# Altium footprint library WE-WIRL.PcbLib: 25 footprints (part 1 of 2)
Each footprint in its own frame and in the unit in brackets; x right, y up, seen from the top. Pads: shape width x height; smd on the part's side, far side on the other; paste and mask are expansions set on the pad; w line width, h text height; cw(c..) or ccw(c..) is an arc to the next point about the centre after c.
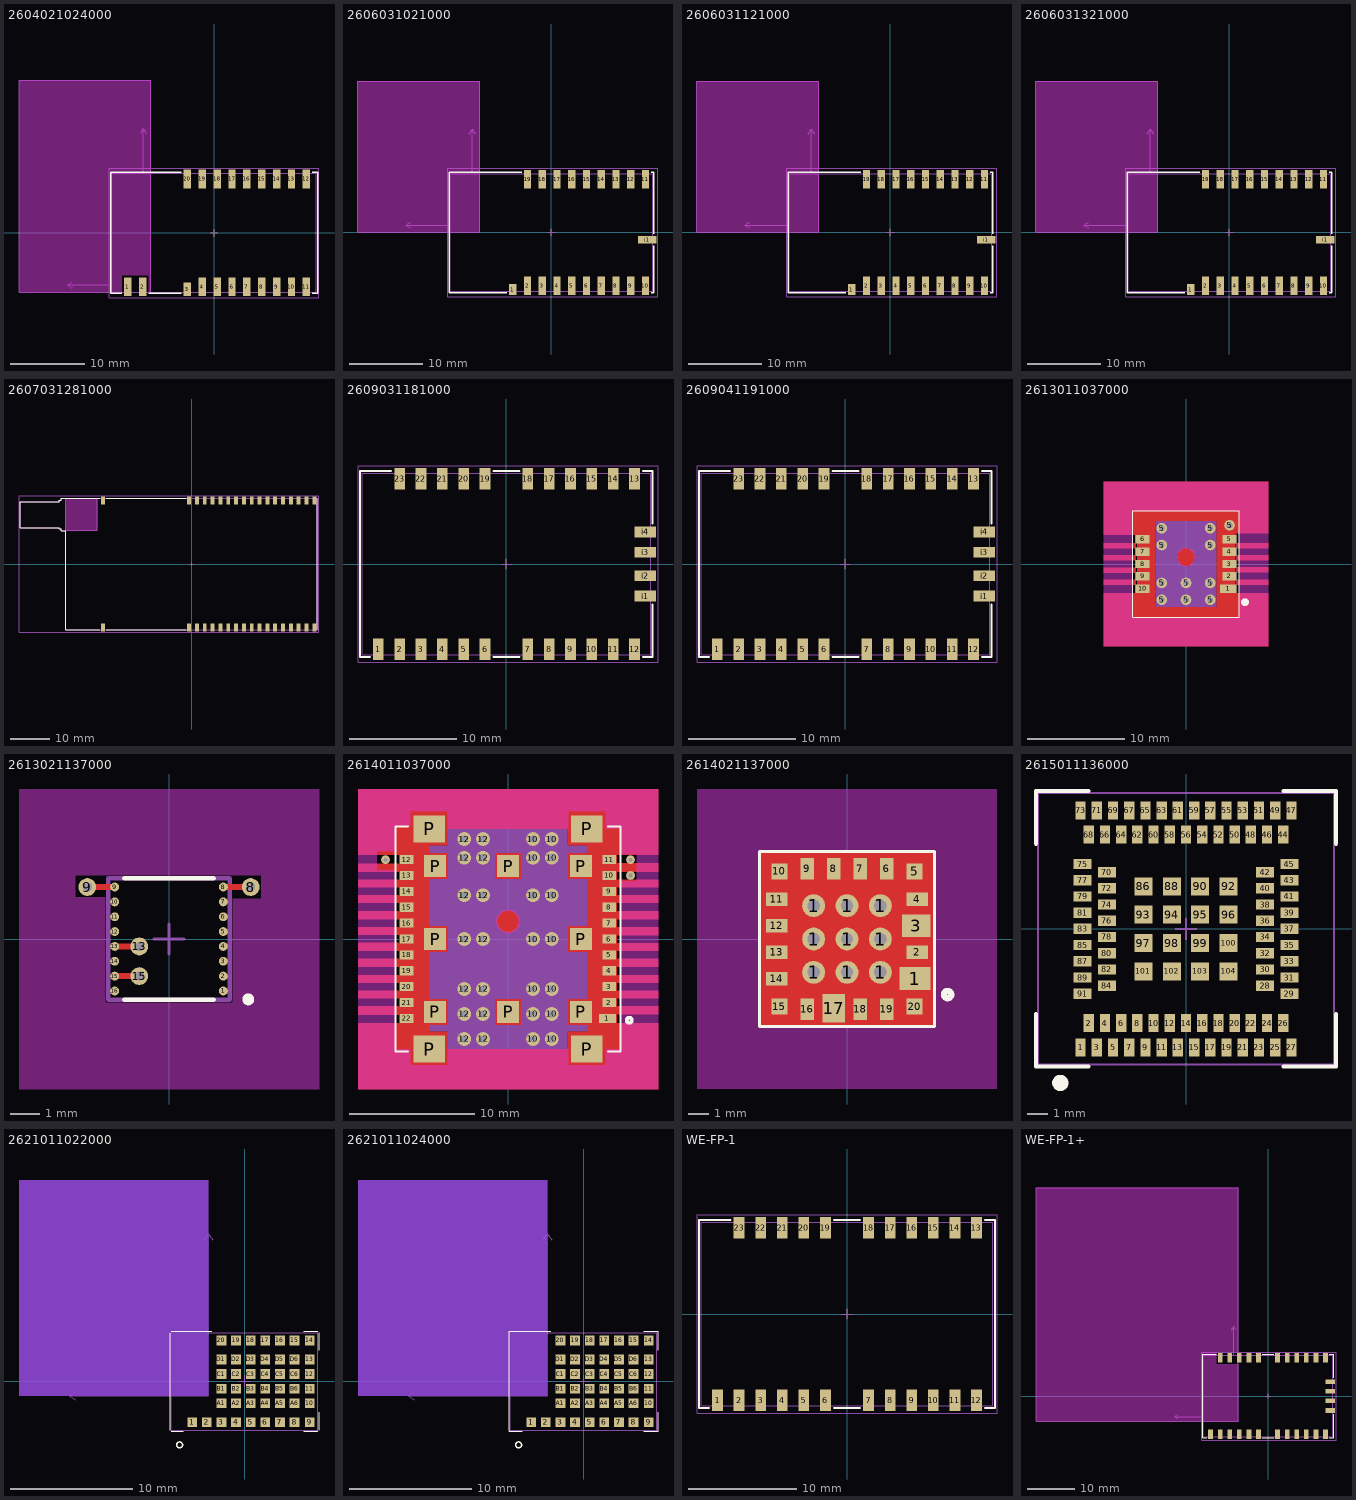
[diagram p0: the footprints below, top view; thin cyan lines are the x and y axes]

## 2604021024000 [mm] "Bluetooth radio module"
height 3.4
pads (20):
  rect 1x2.5 smd: 1(-11.6,-7.25) 2(-9.6,-7.25) 4(-1.6,-7.25) 5(0.4,-7.25) 6(2.4,-7.25) 7(4.4,-7.25) 8(6.4,-7.25) 9(8.4,-7.25) 10(10.4,-7.25) 11(12.4,-7.25) 12(12.4,7.25) 13(10.4,7.25) 14(8.4,7.25) 15(6.4,7.25) 16(4.4,7.25) 17(2.4,7.25) 18(0.4,7.25) 19(-1.6,7.25) 20(-3.6,7.25)
  rect 1x1.8 smd: 3(-3.6,-7.6)
Top Overlay:
  lines w0.2: -12.4,-8.15 -13.9,-8.15 -13.9,8.15 -4.4,8.15 ; -8.8,-8.15 -4.4,-8.15 ; 13.2,-8.15 13.9,-8.15 13.9,8.15 13.2,8.15
Keep-Out Layer:
  region: -26.25,20.5 -8.52,20.5 -8.52,-8 -8.8,-8 -8.8,-5.7 -12.4,-5.7 -12.4,-8 -26.25,-8
Assembly Notes:
  lines w0.1: -19.15,-7.375 -19.75,-7 ; -19.15,-6.625 -19.75,-7 ; -13.75,-7 -19.75,-7 ; -9.895,13.4 -9.52,14 ; -9.52,8 -9.52,14 ; -9.145,13.4 -9.52,14 ; -26.25,-8 -26.25,20.5 -8.52,20.5 -8.52,-8 -26.25,-8
  text "12.5mm" at -11.05,13.1 h0.89
  text "12.5mm" at -18.95,-6.5 h0.89
  text "no metal" at -25.45,-7.3 h0.89
  text "no metal" at -9.95,19.7 h0.89
Top Designator:
  text ".Designator" at -3.647,-0.357 h1
Top 3D Body:
  lines w0.1: -13.75,-8 13.75,-8 13.75,8 -13.75,8 -13.75,-8
Top Courtyard:
  lines w0.05: -14.1,-8.7 14.1,-8.7 14.1,8.7 -14.1,8.7 -14.1,-8.7
Top Component Center:
  lines w0.1: -0.5,0 0.5,0 ; 0,-0.5 0,0.5
3D body "2604021024001.stp": height 3.3, standoff 0, extent -13.75,-8 13.75,8

## 2606031021000 [mm] "Radio module 2.4GHz with chip antenna"
height 3.4
pads (20):
  rect 1x1.5 smd: 1(-5.25,-7.75)
  rect 1x2.5 smd: 2(-3.25,-7.25) 3(-1.25,-7.25) 4(0.75,-7.25) 5(2.75,-7.25) 6(4.75,-7.25) 7(6.75,-7.25) 8(8.75,-7.25) 9(10.75,-7.25) 10(12.75,-7.25) 11(12.75,7.25) 12(10.75,7.25) 13(8.75,7.25) 14(6.75,7.25) 15(4.75,7.25) 16(2.75,7.25) 17(0.75,7.25) 18(-1.25,7.25) 19(-3.25,7.25)
  rect 2.5x1 smd: i1(13,-1)
Top Overlay:
  lines w0.2: -6.05,-8.15 -13.9,-8.15 -13.9,8.15 -4.05,8.15 ; 13.55,-8.15 13.9,-8.15 13.9,-1.8 ; 13.55,8.15 13.9,8.15 13.9,-0.2
Keep-Out Layer:
  region: -26.25,0 -26.25,20.5 -9.75,20.5 -9.75,0
Assembly Notes:
  lines w0.1: -19.15,0.625 -19.75,1 ; -19.15,1.375 -19.75,1 ; -13.75,1 -19.75,1 ; -11.125,13.4 -10.75,14 ; -10.75,8 -10.75,14 ; -10.375,13.4 -10.75,14 ; -26.25,0 -26.25,20.5 -9.75,20.5 -9.75,0 -26.25,0
  text "no metal" at -11.18,19.7 h0.89
  text "12.5mm" at -12.28,13.1 h0.89
  text "12.5mm" at -18.95,1.5 h0.89
  text "no metal" at -25.45,0.7 h0.89
Top Designator:
  text ".Designator" at -3.647,-0.357 h1
Top 3D Body:
  lines w0.1: -13.75,-8 -13.75,8 13.75,8 13.75,-8 -13.75,-8
Top Courtyard:
  lines w0.05: -14.1,-8.7 14.45,-8.7 14.45,8.7 -14.1,8.7 -14.1,-8.7
Top Component Center:
  lines w0.1: -0.5,0 0.5,0 ; 0,-0.5 0,0.5
3D body "2606031021000.stp": height 3, standoff 0, extent -13.75,-8 13.75,8

## 2606031121000 [mm] "Radio module 2.4 GHz with RF pad"
height 3.4
pads (20):
  rect 1x1.5 smd: 1(-5.25,-7.75)
  rect 1x2.5 smd: 2(-3.25,-7.25) 3(-1.25,-7.25) 4(0.75,-7.25) 5(2.75,-7.25) 6(4.75,-7.25) 7(6.75,-7.25) 8(8.75,-7.25) 9(10.75,-7.25) 10(12.75,-7.25) 11(12.75,7.25) 12(10.75,7.25) 13(8.75,7.25) 14(6.75,7.25) 15(4.75,7.25) 16(2.75,7.25) 17(0.75,7.25) 18(-1.25,7.25) 19(-3.25,7.25)
  rect 2.5x1 smd: i1(13,-1)
Top Overlay:
  lines w0.2: -6.05,-8.15 -13.9,-8.15 -13.9,8.15 -4.05,8.15 ; 13.55,-8.15 13.9,-8.15 13.9,-1.8 ; 13.55,8.15 13.9,8.15 13.9,-0.2
Keep-Out Layer:
  region: -26.25,0 -26.25,20.5 -9.75,20.5 -9.75,0
Assembly Notes:
  lines w0.1: -19.15,0.625 -19.75,1 ; -19.15,1.375 -19.75,1 ; -13.75,1 -19.75,1 ; -11.125,13.4 -10.75,14 ; -10.75,8 -10.75,14 ; -10.375,13.4 -10.75,14 ; -26.25,0 -26.25,20.5 -9.75,20.5 -9.75,0 -26.25,0
  text "no metal" at -11.18,19.7 h0.89
  text "12.5mm" at -12.28,13.1 h0.89
  text "12.5mm" at -18.95,1.5 h0.89
  text "no metal" at -25.45,0.7 h0.89
Top Designator:
  text ".Designator" at -3.647,-0.357 h1
Top 3D Body:
  lines w0.1: -13.75,-8 13.75,-8 13.75,8 -13.75,8 -13.75,-8
Top Courtyard:
  lines w0.05: -14.1,-8.7 -14.1,8.7 14.45,8.7 14.45,-8.7 -14.1,-8.7
Top Component Center:
  lines w0.1: -0.5,0 0.5,0 ; 0,-0.5 0,0.5
3D body "2606031121001.stp": height 3, standoff 0, extent -13.75,-8 13.75,8

## 2606031321000 [mm] "Radio module 2.4 GHz with VFL connector"
height 3.4
pads (20):
  rect 1x1.5 smd: 1(-5.25,-7.75)
  rect 1x2.5 smd: 2(-3.25,-7.25) 3(-1.25,-7.25) 4(0.75,-7.25) 5(2.75,-7.25) 6(4.75,-7.25) 7(6.75,-7.25) 8(8.75,-7.25) 9(10.75,-7.25) 10(12.75,-7.25) 11(12.75,7.25) 12(10.75,7.25) 13(8.75,7.25) 14(6.75,7.25) 15(4.75,7.25) 16(2.75,7.25) 17(0.75,7.25) 18(-1.25,7.25) 19(-3.25,7.25)
  rect 2.5x1 smd: i1(13,-1)
Top Overlay:
  lines w0.2: -6.05,-8.15 -13.9,-8.15 -13.9,8.15 -4.05,8.15 ; 13.55,-8.15 13.9,-8.15 13.9,-1.8 ; 13.55,8.15 13.9,8.15 13.9,-0.2
Keep-Out Layer:
  region: -26.25,0 -26.25,20.5 -9.75,20.5 -9.75,0
Assembly Notes:
  lines w0.1: -19.15,0.625 -19.75,1 ; -19.15,1.375 -19.75,1 ; -13.75,1 -19.75,1 ; -11.125,13.4 -10.75,14 ; -10.75,8 -10.75,14 ; -10.375,13.4 -10.75,14 ; -26.25,0 -26.25,20.5 -9.75,20.5 -9.75,0 -26.25,0
  text "no metal" at -11.18,19.7 h0.89
  text "12.5mm" at -12.28,13.1 h0.89
  text "12.5mm" at -18.95,1.5 h0.89
  text "no metal" at -25.45,0.7 h0.89
Top Designator:
  text ".Designator" at -3.647,-0.357 h1
Top 3D Body:
  lines w0.1: -13.75,-8 -13.75,8 13.75,8 13.75,-8 -13.75,-8
Top Courtyard:
  lines w0.05: -14.1,-8.7 14.45,-8.7 14.45,8.7 -14.1,8.7 -14.1,-8.7
Top Component Center:
  lines w0.1: -0.5,0 0.5,0 ; 0,-0.5 0,0.5
3D body "2606031321001.stp": height 3, standoff 0, extent -13.75,-8 13.75,8

## 2607031281000 [mm] "Radio module 868MHz"
height 14.65
pads (36):
  rect 1x2 smd: 1(-22.625,-16.25) 2(-0.625,-16.25) 3(1.375,-16.25) 4(3.375,-16.25) 5(5.375,-16.25) 6(7.375,-16.25) 7(9.375,-16.25) 8(11.375,-16.25) 9(13.375,-16.25) 10(15.375,-16.25) 11(17.375,-16.25) 12(19.375,-16.25) 13(21.375,-16.25) 14(23.375,-16.25) 15(25.375,-16.25) 16(27.375,-16.25) 17(29.375,-16.25) 18(31.375,-16.25) 19(31.375,16.25) 20(29.375,16.25) 21(27.375,16.25) 22(25.375,16.25) 23(23.375,16.25) 24(21.375,16.25) 25(19.375,16.25) 26(17.375,16.25) 27(15.375,16.25) 28(13.375,16.25) 29(11.375,16.25) 30(9.375,16.25) 31(7.375,16.25) 32(5.375,16.25) 33(3.375,16.25) 34(1.375,16.25) 35(-0.625,16.25) 36(-22.625,16.25)
Top Overlay:
  lines w0.2: -23.425,-16.75 -32.175,-16.75 -32.175,8.45 -33.325,8.45 -33.325,8.95 -33.825,8.95 -33.825,9.3 -43.825,9.3 -43.825,15.9 -33.825,15.9 -33.825,16.25 -33.325,16.25 -33.325,16.75 -32.175,16.75 -23.425,16.75 ; -21.825,-16.75 -1.425,-16.75 ; -21.825,16.75 -1.425,16.75 ; 32.175,-16.75 32.175,16.75
Keep-Out Layer:
  board cut-out: -32.175,8.65 -24.075,8.65 -24.075,16.75 -32.175,16.75
Assembly Notes:
  lines w0.1: -32.175,8.65 -24.075,8.65 -24.075,16.75 -32.175,16.75 -32.175,8.65
  text "Cut out area" at -32.675,7.15 h1.02
Top Designator:
  text ".Designator" at -3.647,-0.357 h1
Top 3D Body:
  lines w0.1: -43.825,9.3 -33.825,9.3 -33.825,8.95 -33.325,8.95 -33.325,8.45 -32.175,8.45 -32.175,-16.75 32.175,-16.75 32.175,16.75 -32.175,16.75 -33.325,16.75 -33.325,16.25 -33.825,16.25 -33.825,15.9 -43.825,15.9 -43.825,9.3
Top Courtyard:
  lines w0.05: -44.125,-17.45 32.575,-17.45 32.575,17.45 -44.125,17.45 -44.125,-17.45
Top Component Center:
  lines w0.1: -0.5,0 0.5,0 ; 0,-0.5 0,0.5
3D body "2607031281001.stp": height 12, standoff -2.65, extent -43.925,-16.775 32.175,16.775
3D body "2607031281001.stp": height 12, standoff -2.65, extent -43.925,-16.775 32.175,16.775

## 2609031181000 [mm] "Compatible to Footprint WE-FP-1+"
height 4
pads (27):
  rect 1x2 smd: 1(-12,-8) 2(-10,-8) 3(-8,-8) 4(-6,-8) 5(-4,-8) 6(-2,-8) 7(2,-8) 8(4,-8) 9(6,-8) 10(8,-8) 11(10,-8) 12(12,-8) 13(12,8) 14(10,8) 15(8,8) 16(6,8) 17(4,8) 18(2,8) 19(-2,8) 20(-4,8) 21(-6,8) 22(-8,8) 23(-10,8)
  rect 2x1 smd: i1(13,-3) i2(13,-1.1) i3(13,1.1) i4(13,3)
Top Overlay:
  lines w0.2: -12.8,-8.7 -13.7,-8.7 -13.7,8.7 -10.8,8.7 ; -1.2,-8.7 1.2,-8.7 ; -1.2,8.7 1.2,8.7 ; 12.8,-8.7 13.7,-8.7 13.7,-3.8 ; 12.8,8.7 13.7,8.7 13.7,3.8
Top Designator:
  text ".Designator" at -3.647,-0.357 h1
Top 3D Body:
  lines w0.1: -13.5,-8.5 13.5,-8.5 13.5,8.5 -13.5,8.5 -13.5,-8.5
Top Courtyard:
  lines w0.05: -13.9,-9.2 -13.9,9.2 14.2,9.2 14.2,-9.2 -13.9,-9.2
Top Component Center:
  lines w0.1: -0.5,0 0.5,0 ; 0,-0.5 0,0.5
3D body "2609031181001.stp": height 3.84, standoff 0, extent -13.5,-8.5 13.5,8.5

## 2609041191000 [mm] "Compatible to Footprint WE-FP-1+"
height 4
pads (27):
  rect 1x2 smd: 1(-12,-8) 2(-10,-8) 3(-8,-8) 4(-6,-8) 5(-4,-8) 6(-2,-8) 7(2,-8) 8(4,-8) 9(6,-8) 10(8,-8) 11(10,-8) 12(12,-8) 13(12,8) 14(10,8) 15(8,8) 16(6,8) 17(4,8) 18(2,8) 19(-2,8) 20(-4,8) 21(-6,8) 22(-8,8) 23(-10,8)
  rect 2x1 smd: i1(13,-3) i2(13,-1.1) i3(13,1.1) i4(13,3)
Top Overlay:
  lines w0.2: -12.8,-8.7 -13.7,-8.7 -13.7,8.7 -10.8,8.7 ; -1.2,-8.7 1.2,-8.7 ; -1.2,8.7 1.2,8.7 ; 12.8,-8.7 13.7,-8.7 13.7,-3.8 ; 12.8,8.7 13.7,8.7 13.7,3.8
Top Designator:
  text ".Designator" at -3.647,-0.357 h1
Top 3D Body:
  lines w0.1: -13.5,-8.5 -13.5,8.5 13.5,8.5 13.5,-8.5 -13.5,-8.5
Top Courtyard:
  lines w0.05: -13.9,-9.2 14.2,-9.2 14.2,9.2 -13.9,9.2 -13.9,-9.2
Top Component Center:
  lines w0.1: -0.5,0 0.5,0 ; 0,-0.5 0,0.5
3D body "2609031181001.stp": height 3.84, standoff 0, extent -13.5,-8.5 13.5,8.5

## 2613011037000 [mm] "Elara-I GNSS Module - GPS and GLONASS."
height 5.9
pads (21):
  rect 1.676x0.864 smd mask+0.05: 1(4.362,-2.54)
  rect 1.422x0.864 smd mask+0.05: 2(4.489,-1.27) 3(4.489,0) 4(4.489,1.27) 5(4.489,2.54) 6(-4.489,2.54) 7(-4.489,1.27) 8(-4.489,0) 9(-4.489,-1.27) 10(-4.489,-2.54)
  round 1.1 hole 0.6 mask+0: 5(-2.5,-3.7) 5(-2.5,-1.96) 5(-2.5,1.96) 5(-2.5,3.7) 5(0,-3.7) 5(0,-1.96) 5(2.5,-3.7) 5(2.5,-1.96) 5(2.5,1.96) 5(2.5,3.7)
  round 1.1 hole 0.6 mask+0.05: 5(4.5,4)
Top Layer:
  pour cut-out: 0.002,1.584 -0.085,1.585 -0.256,1.552 -0.417,1.487 -0.562,1.391 -0.686,1.27 -0.783,1.126 -0.851,0.966 -0.886,0.796 -0.887,0.709 -0.888,0.621 -0.854,0.448 -0.788,0.285 -0.691,0.138 -0.567,0.012 -0.421,-0.087 -0.259,-0.155 -0.086,-0.19 0.002,-0.191 0.09,-0.19 0.263,-0.155 0.425,-0.087 0.571,0.012 0.695,0.138 0.792,0.285 0.858,0.448 0.892,0.621 0.891,0.709 0.89,0.796 0.855,0.966 0.787,1.126 0.69,1.27 0.566,1.391 0.421,1.487 0.26,1.552 0.089,1.585
  pour cut-out: -8.5,-8.5 -8.5,-3 -3.175,-3 -3.175,-8.5
  pour cut-out: -8.5,8.5 8.5,8.5 8.5,4.445 -8.5,4.445
  pour cut-out: -8.5,-4.445 8.5,-4.445 8.5,-8.5 -8.5,-8.5
  pour cut-out: 3.175,-8.5 3.175,8.5 5.05,8.5 5.05,-8.5
  pour cut-out: -8.5,3 -8.5,8.5 -3.175,8.5 -3.175,3
  pour cut-out: -8.513,-2.15 -8.513,-1.65 -5.25,-1.65 -5.25,-2.15
  pour cut-out: -8.513,-0.9 -8.513,-0.4 -5.25,-0.4 -5.25,-0.9
  pour cut-out: -8.513,0.4 -8.513,0.9 -5.25,0.9 -5.25,0.4
  pour cut-out: -8.513,1.65 -8.513,2.15 -5.25,2.15 -5.25,1.65
  pour cut-out: 8.513,2.15 8.513,1.65 5.25,1.65 5.25,2.15
  pour cut-out: 8.513,0.9 8.513,0.4 5.25,0.4 5.25,0.9
  pour cut-out: 8.513,-0.35 8.513,-0.85 5.25,-0.85 5.25,-0.35
  pour cut-out: 8.513,-1.65 8.513,-2.15 5.25,-2.15 5.25,-1.65
  pour cut-out: 3.184,-8.5 3.184,-3 8.509,-3 8.509,-8.5
  pour cut-out: 8.509,3.175 3.175,3.175 3.175,8.5 8.509,8.5
  pour cut-out: -3.175,8.5 -3.175,-8.5 -5.05,-8.5 -5.05,8.5
  lines w0: 0.891,0.69 cw(c0,0.69) 0.891,0.709
  lines w0.5: 4.5,2.5 4.5,4
Top Layer keep-out:
  circle w0.127: c0,0.69 r0.889
Top Overlay:
  circle w0.4: c6.1,-3.94 r0.2
  lines w0.127: -5.5,-5.5 5.5,-5.5 5.5,5.5 -5.5,5.5 -5.5,-5.5
Keep-Out Layer:
  region: 8.5,-8.5 8.5,-5.5 -8.5,-5.5 -8.5,-8.5
  region: -8.5,8.5 -8.5,5.5 8.5,5.5 8.5,8.5
  region: 8.5,8.5 5.5,8.5 5.5,-8.5 8.5,-8.5
  rectangle: -8.5,-8.5 -5.5,8.5
Assembly Notes:
  rectangle: -3.175,-4.445 3.175,4.445
  text "Area below the module except for center antipad  / should be filled with ground" at -8.61,-10.865 h0.4
Top Designator:
  text ".Designator" at -3.647,-0.357 h1
Top 3D Body:
  lines w0.1: -5.2,-5 -5.2,5 5.2,5 5.2,-5 -5.2,-5
Top Component Center:
  lines w0.1: -0.5,0 0.5,0 ; 0,-0.5 0,0.5
3D body "2613011037000.stp": height 6.7, standoff 0, extent -5,-5 5,5

## 2613021137000 [mm] "Elara-II GNSS Module - GPS and GLONASS."
height 2.2
pads (20):
  rrect100% 0.3x0.3 smd mask+0.05: 1(1.83,-1.75) 2(1.83,-1.25) 3(1.83,-0.75) 4(1.83,-0.25) 5(1.83,0.25) 6(1.83,0.75) 7(1.83,1.25) 8(1.83,1.75) 9(-1.83,1.75) 10(-1.83,1.25) 11(-1.83,0.75) 12(-1.83,0.25) 13(-1.83,-0.25) 14(-1.83,-0.75) 15(-1.83,-1.25) 16(-1.83,-1.75)
  round 0.6 / inner round 1.1 / far side round 1.1 hole 0.3 mask+0: 8(2.75,1.75) 9(-2.75,1.75) 13(-1,-0.25) 15(-1,-1.25)
Top Layer:
  lines w0.2: -2.75,1.75 -1.83,1.75 ; -1.83,-1.25 -1,-1.25 ; -1.83,-0.25 -1,-0.25 ; 1.83,1.75 2.75,1.75
Top Overlay:
  circle w0.2: c2.667,-2.032 r0.1
  lines w0.15: -1.5,-2.05 1.5,-2.05 ; -1.5,2.05 1.5,2.05
Keep-Out Layer:
  region: 2.15,2.15 3.1,2.15 3.1,1.35 2.15,1.35 2.15,-5.05 5.05,-5.05 5.05,5.05 2.15,5.05
  region: -5.05,5.05 -2.15,5.05 -2.2,5 -2.2,2.15 -3.15,2.15 -3.15,1.4 -2.15,1.4 -2.15,-5.05 -5.05,-5.05
  region: 5,5.05 5,2.15 -5.05,2.15 -5.05,5.05
  region: -5.05,-5.05 -5.05,-2.15 5.05,-2.15 5.05,-5.05
Top Designator:
  text ".Designator" at -3.647,-0.357 h1
Top 3D Body:
  lines w0.15: -2.05,-2.05 2.05,-2.05 2.05,2.05 -2.05,2.05 -2.05,-2.05
Top Component Center:
  lines w0.1: -0.5,0 0.5,0 ; 0,-0.5 0,0.5
3D body "2613021137000.stp": height 1.5, standoff -0.7, extent -2.05,-2.05 2.05,2.05

## 2614011037000 [mm] "Erinome-I GNSS Module - BeiDou, Galileo, GPS, GLONASS."
height 6.4
pads (65):
  rect 1.37x0.737 smd mask+0.05: 1(7.95,-6.35)
  rect 1.07x0.737 smd mask+0.05: 2(8.1,-5.08) 3(8.1,-3.81) 4(8.1,-2.54) 5(8.1,-1.27) 6(8.1,0) 7(8.1,1.27) 8(8.1,2.54) 9(8.1,3.81) 10(8.1,5.08) 11(8.1,6.35) 12(-8.1,6.35) 13(-8.1,5.08) 14(-8.1,3.81) 15(-8.1,2.54) 16(-8.1,1.27) 17(-8.1,0) 18(-8.1,-1.27) 19(-8.1,-2.54) 20(-8.1,-3.81) 21(-8.1,-5.08) 22(-8.1,-6.35)
  round 1.1 hole 0.6 mask+0: 10(2,-8) 10(2,-6) 10(2,-4) 10(2,0) 10(2,3.5) 10(2,6.5) 10(2,8) 10(3.5,-8) 10(3.5,-6) 10(3.5,-4) 10(3.5,0) 10(3.5,3.5) 10(3.5,6.5) 10(3.5,8) 12(-3.5,-8) 12(-3.5,-6) 12(-3.5,-4) 12(-3.5,0) 12(-3.5,3.5) 12(-3.5,6.5) 12(-3.5,8) 12(-2,-8) 12(-2,-6) 12(-2,-4) 12(-2,0) 12(-2,3.5) 12(-2,6.5) 12(-2,8)
  round 0.7 hole 0.3 mask+0.05: 10(9.8,5.08) 11(9.8,6.35) 12(-9.8,6.35)
  rect 2.54x2.16 smd mask+0.05: P(-6.3,-8.8) P(-6.3,8.8) P(6.3,-8.8) P(6.3,8.8)
  rect 1.778x1.778 smd mask+0.05: P(-5.85,-5.84) P(-5.84,0) P(-5.84,5.84) P(0,-5.84) P(0,5.84) P(5.84,-5.84) P(5.84,0) P(5.84,5.84)
Top Layer:
  pour cut-out: 8.7,5.4 8.7,6.05 12,6.05 12,5.4
  pour cut-out: 8.7,4.15 8.7,4.75 12,4.75 12,4.15
  pour cut-out: 8.7,2.9 8.7,3.5 12,3.5 12,2.9
  pour cut-out: 8.7,1.6 8.7,2.2 12,2.2 12,1.6
  pour cut-out: 8.7,-3.5 8.7,-2.9 12,-2.9 12,-3.5
  pour cut-out: 8.7,-2.2 8.7,-1.6 12,-1.6 12,-2.2
  pour cut-out: 8.7,-0.95 8.7,-0.35 12,-0.35 12,-0.95
  pour cut-out: 8.7,0.3 8.7,0.95 12,0.95 12,0.3
  pour cut-out: 8.7,-4.75 8.7,-4.15 12,-4.15 12,-4.75
  pour cut-out: 8.7,-6 8.7,-5.4 12,-5.4 12,-6
  pour cut-out: -8.7,6 -8.7,5.4 -12,5.4 -12,6
  pour cut-out: -8.7,6 -8.7,5.4 -12,5.4 -12,6
  pour cut-out: -8.7,4.75 -8.7,4.15 -12,4.15 -12,4.75
  pour cut-out: -8.7,-0.3 -8.7,-0.95 -12,-0.95 -12,-0.3
  pour cut-out: -8.7,0.95 -8.7,0.35 -12,0.35 -12,0.95
  pour cut-out: -8.7,2.2 -8.7,1.6 -12,1.6 -12,2.2
  pour cut-out: -8.7,3.5 -8.7,2.9 -12,2.9 -12,3.5
  pour cut-out: -8.7,-1.6 -8.7,-2.2 -12,-2.2 -12,-1.6
  pour cut-out: -8.7,-2.9 -8.7,-3.5 -12,-3.5 -12,-2.9
  pour cut-out: -8.7,-4.15 -8.7,-4.75 -12,-4.75 -12,-4.15
  pour cut-out: -8.7,-5.4 -8.7,-6.05 -12,-6.05 -12,-5.4
  pour cut-out: 6.35,-12 6.35,-6.75 12,-6.75 12,-12
  pour cut-out: -6.35,-6.75 -6.35,-12 -12,-12 -12,-6.75
  pour cut-out: 6.35,6.75 6.35,12 12,12 12,6.75
  pour cut-out: 4.8,10.2 7.8,10.2 7.8,7.5 4.8,7.5
  pour cut-out: 4.8,-7.4 7.8,-7.4 7.8,-10.1 4.8,-10.1
  pour cut-out: -7.8,-7.4 -4.8,-7.4 -4.8,-10.1 -7.8,-10.1
  pour cut-out: -7.8,10.2 -4.8,10.2 -4.8,7.5 -7.8,7.5
  pour cut-out: -12,6.75 -12,12 -6.35,12 -6.35,6.75
  pour cut-out: -12,-8.8 12,-8.8 12,-12 -12,-12
  pour cut-out: -12,12 12,12 12,8.8 -12,8.8
  pour cut-out: 0,2.3 -0.088,2.3 -0.259,2.266 -0.421,2.199 -0.567,2.101 -0.691,1.978 -0.788,1.832 -0.855,1.67 -0.889,1.499 -0.889,1.411 -0.89,1.323 -0.856,1.15 -0.79,0.987 -0.693,0.84 -0.569,0.714 -0.423,0.615 -0.261,0.547 -0.088,0.512 0,0.511 0.088,0.512 0.261,0.547 0.423,0.615 0.569,0.714 0.693,0.84 0.79,0.987 0.856,1.15 0.89,1.323 0.889,1.411 0.889,1.499 0.855,1.67 0.788,1.832 0.691,1.978 0.567,2.101 0.421,2.199 0.259,2.266 0.088,2.3
  pour cut-out: -6.858,-4.826 -4.826,-4.826 -4.826,-6.858 -6.858,-6.858
  pour cut-out: -1.008,-4.826 1.024,-4.826 1.024,-6.858 -1.008,-6.858
  pour cut-out: -1.008,6.854 1.024,6.854 1.024,4.822 -1.008,4.822
  pour cut-out: -6.848,6.854 -4.816,6.854 -4.816,4.822 -6.848,4.822
  pour cut-out: -6.848,1.014 -4.816,1.014 -4.816,-1.018 -6.848,-1.018
  pour cut-out: 4.832,1.014 6.864,1.014 6.864,-1.018 4.832,-1.018
  pour cut-out: 4.832,-4.826 6.864,-4.826 6.864,-6.858 4.832,-6.858
  pour cut-out: 4.832,6.854 6.864,6.854 6.864,4.822 4.832,4.822
  pour cut-out: -6.35,-6.75 -8.7,-6.75 -8.7,6.75 -6.35,6.75
  pour cut-out: 6.35,6.75 8.7,6.75 8.7,-6.75 6.35,-6.75
Top Layer keep-out:
  circle w0.127: c0,1.405 r0.889
  circle w0.127: c0,1.405 r0.889
Top Overlay:
  circle w0.3: c9.7,-6.5 r0.206
  lines w0.127: -8,-9 -9,-9 -9,9 -8,9 ; 8,-9 9,-9 9,9 8,9
Keep-Out Layer:
  region: -12,12 -12,-12 -9,-12 -9,5.5 -10.5,5.5 -10.5,7 -9,7 -9,12
  region: -9,9 -7.8,9 -7.8,10.2 -4.8,10.2 -4.8,8.8 4.8,8.8 4.8,10.2 7.8,10.2 7.8,8.8 12,8.8 12,12 -9,12
  region: 12,8.8 9,8.8 9,6.8 10.3,6.8 10.3,4.6 9,4.6 9,-12 12,-12
  region: 7.8,-8.8 7.8,-10.1 4.8,-10.1 4.8,-8.8 -4.8,-8.8 -4.8,-10.1 -7.8,-10.1 -7.8,-8.8 -9,-8.8 -9,-12 9,-12 9,-8.8
Assembly Notes:
  rectangle: -6.345,-8.805 6.355,8.8
  text "Area below the module except for center antipad and mounting pads should be filled with ground" at -9.275,-16.17 h0.5
Top Designator:
  text ".Designator" at -3.647,-0.357 h1
Top 3D Body:
  lines w0.1: -8.636,-8.495 -8.636,8.495 8.636,8.495 8.636,-8.495 -8.636,-8.495
Top Component Center:
  lines w0.1: -0.5,0 0.5,0 ; 0,-0.5 0,0.5
3D body "2614011037000.stp": height 7.1, standoff 0, extent -9,-9 9,9

## 2614021137000 [mil] "Erinome-II GNSS Module - BeiDou, Galileo, GPS, GLONASS."
height 62.99
pads (29):
  round 43.31 hole 23.62 mask+0: 1(-62.99,-62.99) 1(-62.99,0) 1(-62.99,62.99) 1(0,-62.99) 1(0,0) 1(0,62.99) 1(62.99,-62.99) 1(62.99,0) 1(62.99,62.99)
  rect 58.46x43.7 smd paste+0 mask+1.97: 1(128.48,-75)
  rect 40x25 smd mask+1.97: 2(132.8,-25) 4(132.8,75) 11(-132.8,75) 12(-132.8,25) 13(-132.8,-25) 14(-132.8,-75)
  rect 53.54x41.73 smd paste+0 mask+1.97: 3(130.83,25)
  rect 30x30 smd mask+1.97: 5(127.8,127.8) 10(-127.8,127.8) 15(-127.8,-127.8) 20(127.8,-127.8)
  rect 25x40 smd mask+1.97: 6(75,132.8) 7(25,132.8) 8(-25,132.8) 9(-75,132.8) 16(-75,-132.8) 18(25,-132.8) 19(75,-132.8)
  rect 41.73x53.54 smd paste+0 mask+1.97: 17(-25,-130.83)
Top Layer:
  region: -92.99,-92.99 -92.99,92.99 92.99,92.99 92.99,-92.99
  pour cut-out: 165.35,165.35 -165.35,165.35 -165.35,-165.35 165.35,-165.35
Top Overlay:
  circle w11.81: c190,-105 r6.88
  lines w5: -165.35,-165.35 -165.35,165.35 165.35,165.35 165.35,-165.35 -165.35,-165.35
Top Paste:
  region: 152.8,-87.48 107.8,-87.48 107.8,-62.48 152.8,-62.48
  region: 152.8,12.48 112.8,12.48 112.8,37.48 152.8,37.48
  region: -37.48,-152.8 -37.48,-112.8 -12.48,-112.8 -12.48,-152.8
Top Solder:
  region: 156.78,-91.45 103.89,-91.45 103.89,-58.59 156.78,-58.59
  region: 156.74,8.54 108.86,8.54 108.86,41.41 156.74,41.41
  region: -41.46,-156.69 -41.46,-108.82 -8.58,-108.82 -8.58,-156.69
Keep-Out Layer:
  region: -283.46,165.35 -283.46,283.46 283.46,283.46 283.46,165.35 165.36,165.35
  region: 165.35,283.46 283.46,283.46 283.46,-283.46 165.35,-283.46 165.35,-165.36
  region: 283.46,-165.35 283.46,-283.46 -283.46,-283.46 -283.46,-165.35 -165.36,-165.35
  region: -165.35,-283.46 -283.46,-283.46 -283.46,283.46 -165.35,283.46 -165.35,165.36
Assembly Notes:
  region: -92.99,-92.99 -92.99,92.99 92.99,92.99 92.99,-92.99
  region: -92.99,-92.99 -92.99,92.99 92.99,92.99 92.99,-92.99
  text "Area below the module should be filled with ground" at -197.05,-366.34 h15.75
Top Designator:
  text ".Designator" at -143.58,-14.06 h39.37
Top 3D Body:
  lines w3.94: -137.8,-137.8 -137.8,137.8 137.8,137.8 137.8,-137.8 -137.8,-137.8
Top Component Center:
  lines w3.94: -19.68,0 19.68,0 ; 0,-19.68 0,19.68
3D body "2614021137000.stp": height 62.99, standoff 0, extent -137.8,-137.8 137.79,137.79

## 2615011136000 [mm] "Cellular Technology: LTE-Cat.m and LTE-Cat.NB-IoT Integrated GNSS and Integrated MCU"
height 1.85
pads (104):
  rect 0.508x0.89 smd: 1(-5.2,-5.85) 2(-4.8,-4.65) 3(-4.4,-5.85) 4(-4,-4.65) 5(-3.6,-5.85) 6(-3.2,-4.65) 7(-2.8,-5.85) 8(-2.4,-4.65) 9(-2,-5.85) 10(-1.6,-4.65) 11(-1.2,-5.85) 12(-0.8,-4.65) 13(-0.4,-5.85) 14(0,-4.65) 15(0.4,-5.85) 16(0.8,-4.65) 17(1.2,-5.85) 18(1.6,-4.65) 19(2,-5.85) 20(2.4,-4.65) 21(2.8,-5.85) 22(3.2,-4.65) 23(3.6,-5.85) 24(4,-4.65) 25(4.4,-5.85) 26(4.8,-4.65) 27(5.2,-5.85) 44(4.8,4.65) 46(4,4.65) 47(5.2,5.85) 48(3.2,4.65) 49(4.4,5.85) 50(2.4,4.65) 51(3.6,5.85) 52(1.6,4.65) 53(2.8,5.85) 54(0.8,4.65) 55(2,5.85) 56(0,4.65) 57(1.2,5.85) 58(-0.8,4.65) 59(0.4,5.85) 60(-1.6,4.65) 61(-0.4,5.85) 62(-2.4,4.65) 63(-1.2,5.85) 64(-3.2,4.65) 65(-2,5.85) 66(-4,4.65) 67(-2.8,5.85) 68(-4.8,4.65) 69(-3.6,5.85) 71(-4.4,5.85) 73(-5.2,5.85)
  rect 0.89x0.508 smd: 28(3.9,-2.8) 29(5.1,-3.2) 30(3.9,-2) 31(5.1,-2.4) 32(3.9,-1.2) 33(5.1,-1.6) 34(3.9,-0.4) 35(5.1,-0.8) 36(3.9,0.4) 37(5.1,0) 38(3.9,1.2) 39(5.1,0.8) 40(3.9,2) 41(5.1,1.6) 42(3.9,2.8) 43(5.1,2.4) 45(5.1,3.2) 70(-3.9,2.8) 72(-3.9,2) 74(-3.9,1.2) 75(-5.1,3.2) 76(-3.9,0.4) 77(-5.1,2.4) 78(-3.9,-0.4) 79(-5.1,1.6) 80(-3.9,-1.2) 81(-5.1,0.8) 82(-3.9,-2) 83(-5.1,0) 84(-3.9,-2.8) 85(-5.1,-0.8) 87(-5.1,-1.6) 89(-5.1,-2.4) 91(-5.1,-3.2)
  rect 0.89x0.89 smd: 86(-2.1,2.1) 88(-0.7,2.1) 90(0.7,2.1) 92(2.1,2.1) 93(-2.1,0.7) 94(-0.7,0.7) 95(0.7,0.7) 96(2.1,0.7) 97(-2.1,-0.7) 98(-0.7,-0.7) 99(0.7,-0.7) 100(2.1,-0.7) 101(-2.1,-2.1) 102(-0.7,-2.1) 103(0.7,-2.1) 104(2.1,-2.1)
Top Overlay:
  circle w0.4: c-6.2,-7.6 r0.2
  lines w0.2: -7.4,-4.2 -7.4,-6.8 -4.8,-6.8 ; -7.4,4.2 -7.4,6.8 -4.8,6.8 ; 4.8,-6.8 7.4,-6.8 7.4,-4.2 ; 4.8,6.8 7.4,6.8 7.4,4.2
Top Designator:
  text ".Designator" at -3.647,-0.357 h1
Top 3D Body:
  lines w0.1: -7.3,-6.7 -7.3,6.7 7.3,6.7 7.3,-6.7 -7.3,-6.7
Top Component Center:
  lines w0.1: -0.5,0 0.5,0 ; 0,-0.5 0,0.5
3D body "2615011136000.stp": height 1.88, standoff 0.03, extent -7.3,-6.7 7.3,6.7

## 2621011022000 [mil] "Ophelia-IV - Radio Module 2.4 GHz without firmware"
height 90.55
pads (44):
  rect 31.5x31.5 smd: 1(-169.29,-131.89) 2(-122.05,-131.89) 3(-74.8,-131.89) 4(-27.56,-131.89) 5(19.69,-131.89) 6(66.93,-131.89) 7(114.17,-131.89) 8(161.42,-131.89) 9(210.63,-131.89) 10(210.63,-70.87) 11(210.63,-23.62) 12(210.63,23.62) 13(210.63,70.87) 14(210.63,131.89) 15(161.42,131.89) 16(114.17,131.89) 17(66.93,131.89) 18(19.69,131.89) 19(-27.56,131.89) 20(-74.8,131.89) A1(-74.8,-70.87) A2(-27.56,-70.87) A3(19.69,-70.87) A4(66.93,-70.87) A5(114.17,-70.87) A6(161.42,-70.87) B1(-74.8,-23.62) B2(-27.56,-23.62) B3(19.69,-23.62) B4(66.93,-23.62) B5(114.17,-23.62) B6(161.42,-23.62) C1(-74.8,23.62) C2(-27.56,23.62) C3(19.69,23.62) C4(66.93,23.62) C5(114.17,23.62) C6(161.42,23.62) D1(-74.8,70.87) D2(-27.56,70.87) D3(19.69,70.87) D4(66.93,70.87) D5(114.17,70.87) D6(161.42,70.87)
Top Layer keep-out:
  region: -728.35,649.61 -118.11,649.61 -118.11,-47.24 -728.35,-47.24
  region: -728.35,649.61 -118.11,649.61 -118.11,-47.24 -728.35,-47.24
Bottom Layer keep-out:
  region: -728.35,649.61 -118.11,649.61 -118.11,-47.24 -728.35,-47.24
Top Overlay:
  circle w5: c-209.84,-205.12 r9.65
  lines w3.94: -240.16,-157.48 -240.16,157.48 ; -236.22,-161.42 -198.82,-161.42 ; -236.22,161.42 -106.3,161.42 ; 190.94,-161.42 236.22,-161.42 ; 190.94,161.42 236.22,161.42 ; 240.16,-157.48 240.16,-100.39 ; 240.16,100.39 240.16,157.48
Assembly Notes:
  lines w3.94: -547.24,-59.06 -566.93,-47.24 ; -547.24,-35.43 -566.93,-47.24 ; -130.91,456.69 -118.11,476.38 ; -103.35,456.69 -118.11,476.38 ; -566.93,-47.24 -236.22,-47.24 -118.11,-47.24 -118.11,157.48 -118.11,476.38
  text "no metal" at -181.1,15.75 h37.2
  text "NO METAL" at -534.65,5.29 h37.2
  text "antenna" at -145.67,15.75 h37.2
  text "12.5mm" at -534.65,-30.71 h37.2
  text "NO METAL" at -99.63,292.13 h37.2
  text "12.5mm" at -135.63,292.13 h37.2
Top Assembly:
  lines w3.94: -236.22,-157.48 236.22,-157.48 236.22,157.48 -236.22,157.48 -236.22,-157.48
Top Designator:
  text ".Designator" at -143.58,-14.06 h39.37
Top 3D Body:
  lines w3.94: -236.22,-157.48 236.22,-157.48 236.22,157.48 -236.22,157.48 -236.22,-157.48
Top Component Center:
  lines w3.94: -19.68,0 19.68,0 ; 0,-19.68 0,19.68
3D body "2621011022000.stp": height 92.13, standoff 0.94, extent -236.22,-157.48 236.22,157.48

## 2621011024000 [mil] "Proteus-IV Bluetooth 6.0 module"
height 90.55
pads (44):
  rect 31.5x31.5 smd: 1(-169.29,-131.89) 2(-122.05,-131.89) 3(-74.8,-131.89) 4(-27.56,-131.89) 5(19.69,-131.89) 6(66.93,-131.89) 7(114.17,-131.89) 8(161.42,-131.89) 9(210.63,-131.89) 10(210.63,-70.87) 11(210.63,-23.62) 12(210.63,23.62) 13(210.63,70.87) 14(210.63,131.89) 15(161.42,131.89) 16(114.17,131.89) 17(66.93,131.89) 18(19.69,131.89) 19(-27.56,131.89) 20(-74.8,131.89) A1(-74.8,-70.87) A2(-27.56,-70.87) A3(19.69,-70.87) A4(66.93,-70.87) A5(114.17,-70.87) A6(161.42,-70.87) B1(-74.8,-23.62) B2(-27.56,-23.62) B3(19.69,-23.62) B4(66.93,-23.62) B5(114.17,-23.62) B6(161.42,-23.62) C1(-74.8,23.62) C2(-27.56,23.62) C3(19.69,23.62) C4(66.93,23.62) C5(114.17,23.62) C6(161.42,23.62) D1(-74.8,70.87) D2(-27.56,70.87) D3(19.69,70.87) D4(66.93,70.87) D5(114.17,70.87) D6(161.42,70.87)
Top Layer keep-out:
  region: -728.35,649.61 -118.11,649.61 -118.11,-47.24 -728.35,-47.24
Bottom Layer keep-out:
  region: -728.35,649.61 -118.11,649.61 -118.11,-47.24 -728.35,-47.24
Top Overlay:
  circle w5: c-209.84,-205.12 r9.65
  lines w3.94: -198.82,-161.42 -240.16,-161.42 -240.16,161.42 -106.3,161.42 ; 194.88,-161.42 240.16,-161.42 240.16,-100.39 ; 194.88,161.42 240.16,161.42 240.16,100.39
Assembly Notes:
  lines w3.94: -547.24,-59.06 -566.93,-47.24 ; -547.24,-35.43 -566.93,-47.24 ; -130.91,456.69 -118.11,476.38 ; -103.35,456.69 -118.11,476.38 ; -566.93,-47.24 -236.22,-47.24 -118.11,-47.24 -118.11,157.48 -118.11,476.38
  text "12.5mm" at -135.63,292.13 h37.2
  text "NO METAL" at -99.63,292.13 h37.2
  text "12.5mm" at -534.65,-30.71 h37.2
  text "antenna" at -145.67,15.75 h37.2
  text "NO METAL" at -534.65,5.29 h37.2
  text "no metal" at -181.1,15.75 h37.2
Top Assembly:
  lines w3.94: -236.22,-157.48 -236.22,157.48 236.22,157.48 236.22,-157.48 -236.22,-157.48
Top Designator:
  text ".Designator" at -143.58,-14.06 h39.37
Top 3D Body:
  lines w3.94: -236.22,-157.48 -236.22,157.48 236.22,157.48 236.22,-157.48 -236.22,-157.48
Top Component Center:
  lines w3.94: -19.68,0 19.68,0 ; 0,-19.68 0,19.68
3D body "IC_Wurth_WIRL-BTLE_2621011024000.step": height 91.87, standoff 0.79, extent -236.22,-157.48 236.22,157.48

## WE-FP-1 [mm]
height 3.8
pads (23):
  rect 1x2 smd: 1(-12,-8) 2(-10,-8) 3(-8,-8) 4(-6,-8) 5(-4,-8) 6(-2,-8) 7(2,-8) 8(4,-8) 9(6,-8) 10(8,-8) 11(10,-8) 12(12,-8) 13(12,8) 14(10,8) 15(8,8) 16(6,8) 17(4,8) 18(2,8) 19(-2,8) 20(-4,8) 21(-6,8) 22(-8,8) 23(-10,8)
Top Overlay:
  lines w0.2: -12.8,-8.7 -13.7,-8.7 -13.7,8.7 -10.8,8.7 ; -1.2,-8.7 1.2,-8.7 ; -1.2,8.7 1.2,8.7 ; 12.8,-8.7 13.7,-8.7 13.7,8.7 12.8,8.7
Top Designator:
  text ".Designator" at -3.647,-0.357 h1
Top 3D Body:
  lines w0.1: -13.5,-8.5 -13.5,8.5 13.5,8.5 13.5,-8.5 -13.5,-8.5
Top Courtyard:
  lines w0.05: -13.9,-9.2 13.9,-9.2 13.9,9.2 -13.9,9.2 -13.9,-9.2
Top Component Center:
  lines w0.1: -0.5,0 0.5,0 ; 0,-0.5 0,0.5
3D body "2605031141001.stp": height 3.84, standoff 0, extent -13.5,-8.5 13.5,8.5

## WE-FP-1+ [mm]
height 3.4
pads (27):
  rect 1x2 smd: 1(-12,-8) 2(-10,-8) 3(-8,-8) 4(-6,-8) 5(-4,-8) 6(-2,-8) 7(2,-8) 8(4,-8) 9(6,-8) 10(8,-8) 11(10,-8) 12(12,-8) 13(12,8) 14(10,8) 15(8,8) 16(6,8) 17(4,8) 18(2,8) 19(-2,8) 20(-4,8) 21(-6,8) 22(-8,8) 23(-10,8)
  rect 2x1 smd: i1(13,-3) i2(13,-1) i3(13,1) i4(13,3)
Top Overlay:
  lines w0.2: -12.8,-8.7 -13.7,-8.7 -13.7,8.7 -10.8,8.7 ; -1.2,-8.7 1.2,-8.7 ; -1.2,8.7 1.2,8.7 ; 12.8,-8.7 13.7,-8.7 13.7,-3.8 ; 12.8,8.7 13.7,8.7 13.7,3.8
Keep-Out Layer:
  region: -48.4,43.5 -6.2,43.5 -6.2,9.3 -10.8,9.3 -10.8,6.7 -6.2,6.7 -6.2,-5.3 -48.5,-5.3
Assembly Notes:
  lines w0.1: -18.9,-4.675 -19.5,-4.3 ; -18.9,-3.925 -19.5,-4.3 ; -13.5,-4.3 -19.5,-4.3 ; -7.575,13.9 -7.2,14.5 ; -7.2,8.5 -7.2,14.5 ; -6.825,13.9 -7.2,14.5 ; -48.5,-5.3 -6.2,-5.3 -6.2,43.5 -48.5,43.5 -48.5,-5.3
  text "no metal" at -25.2,-4.6 h0.89
  text "35mm" at -18.3,-3.7 h0.89
  text "35mm" at -8.7,13.1 h0.89
  text "no metal" at -7.63,20.2 h0.89
Top Designator:
  text ".Designator" at -3.647,-0.357 h1
Top 3D Body:
  lines w0.1: -13.5,-8.5 13.5,-8.5 13.5,8.5 -13.5,8.5 -13.5,-8.5
Top Courtyard:
  lines w0.05: -13.9,-9.2 -13.9,9.2 14.2,9.2 14.2,-9.2 -13.9,-9.2
Top Component Center:
  lines w0.1: -0.5,0 0.5,0 ; 0,-0.5 0,0.5
3D body "2609011081001.stp": height 3.25, standoff 0, extent -13.5,-8.5 13.5,8.5